# EAGLE library part CC2564MODACMOG (library CC2564MODACMOG_wrong)
Dual-mode Bluetooth® CC2564 module with integrated antenna Source: Datasheet <http://www.ti.com/lit/ds/symlink/cc2564moda.pdf>
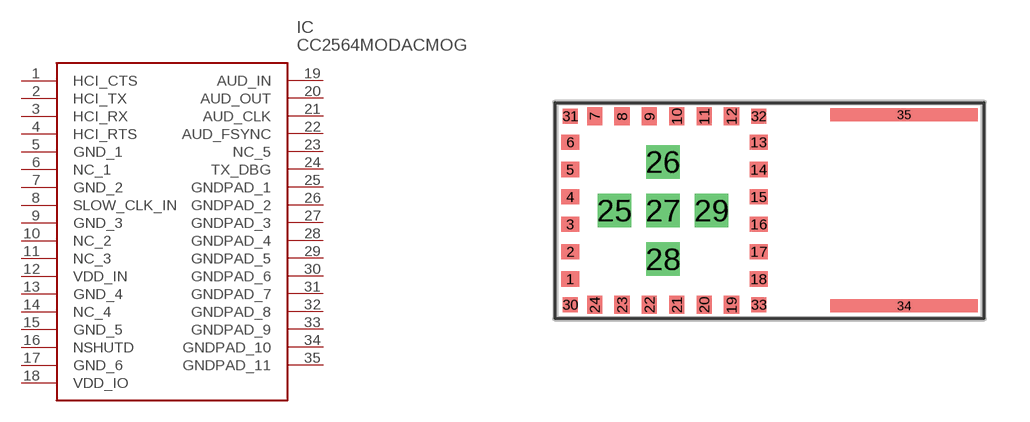
[diagram p0: symbol with the pads of MOG0035A; footprint MOG0035A]

Designator prefix IC

## CC2564MODACMOG (Arrow_Part_Number: CC2564MODACMOG; Arrow_Price-Stock: https://www.arrow.com/en/products/cc2564modacmog/texas-instruments; Description: Dual-mode Bluetooth&#174; CC2564 module with integrated antenna; Height: mm; Manufacturer_Name: Texas Instruments; Manufacturer_Part_Number: CC2564MODACMOG; Mouser_Part_Number: 595-CC2564MODACMOG; Mouser_Price-Stock: https://www.mouser.co.uk/ProductDetail/Texas-Instruments/CC2564MODACMOG?qs=tCMd4XlZ%2FiD0qx2OJWZ%2FcQ%3D%3D)  [MOG0035A]
1  HCI_CTS  in
2  HCI_TX  out
3  HCI_RX  in
4  HCI_RTS  out
5  GND_1  pwr
6  NC_1
7  GND_2  pwr
8  SLOW_CLK_IN  in
9  GND_3  pwr
10  NC_2
11  NC_3
12  VDD_IN  in
13  GND_4  pwr
14  NC_4
15  GND_5  pwr
16  NSHUTD  in
17  GND_6  pwr
18  VDD_IO
19  AUD_IN
20  AUD_OUT
21  AUD_CLK
22  AUD_FSYNC
23  NC_5
24  TX_DBG  out
25  GNDPAD_1  pwr
26  GNDPAD_2  pwr
27  GNDPAD_3  pwr
28  GNDPAD_4  pwr
29  GNDPAD_5  pwr
30  GNDPAD_6  pwr
31  GNDPAD_7  pwr
32  GNDPAD_8  pwr
33  GNDPAD_9  pwr
34  GNDPAD_10  pwr
35  GNDPAD_11  pwr

## Footprint MOG0035A (pad centres in mm)
MOG0035A
smd 0.6 x 0.5: 1 -6.55,-2.25; 2 -6.55,-1.35; 3 -6.55,-0.45; 4 -6.55,0.45; 5 -6.55,1.35; 6 -6.55,2.25; 13 -0.35,2.25; 14 -0.35,1.35; 15 -0.35,0.45; 16 -0.35,-0.45; 17 -0.35,-1.35; 18 -0.35,-2.25
smd 0.5 x 0.6: 7 -5.75,3.1; 8 -4.85,3.1; 9 -3.95,3.1; 10 -3.05,3.1; 11 -2.15,3.1; 12 -1.25,3.1; 19 -1.25,-3.1; 20 -2.15,-3.1; 21 -3.05,-3.1; 22 -3.95,-3.1; 23 -4.85,-3.1; 24 -5.75,-3.1
drill 0.2 pad 1.1 square: 25 -5.1,0; 26 -3.5,1.6; 27 -3.5,0; 28 -3.5,-1.6; 29 -1.9,0
smd 0.5 x 0.5: 30 -6.55,-3.1; 31 -6.55,3.1; 32 -0.35,3.1; 33 -0.35,-3.1
smd 4.85 x 0.43: 34 4.425,-3.135; 35 4.425,3.15